# Altium schematic symbol library segdisplay.SchLib: 1 symbol
Pins are listed as number, name and electrical type; pins without a type are passive.

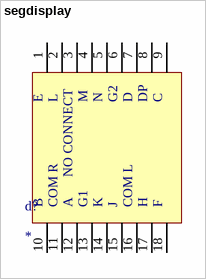
[diagram p0: symbol segdisplay]

## segdisplay
designator d?
footprint PCBComponent_1
pins: 1, 2, 3, 4, 5, 6, 7, 8, 9, 10, 11, 12, 13, 14, 15, 16, 17, 18
text: E; L; M; N; G2; D; DP; C; NO CONNECT; B; COM R; A; G1; K; J; COM L; H; F